# Altium schematic symbol library CD74HC4051M96.SchLib: 2 symbols
Pins are listed as number, name and electrical type; pins without a type are passive.

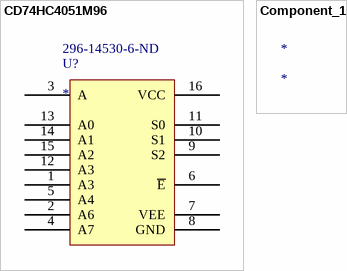
[diagram p0: symbols CD74HC4051M96 to Component_1]

## CD74HC4051M96
designator U?  Supplier Part Number 1: 296-14530-6-ND
IC MUX/DEMUX 8X1 16SOIC; Manufacturer: Texas Instruments (TI); Manufacturer Part Number: CD74HC4051M96; Min Dual Supply Voltage: 1V; Max Supply Voltage: 6V; Min Supply Voltage: 2V; Number of Inputs: 8; Number of Outputs: 1; Dual Supply Voltage: 3V; Max Dual Supply Voltage: 5V; Bandwidth: 180MHz; Propagation Delay: 60ns; Logic Function: Multiplexer,Demultiplexer; On-State Resistance: 130R; Turn-On Delay Time: 225ns; Supply Type: Single,Dual; Low Level Output Current: 25mA; Nominal Supply Current: 16uA; Polarity: Non-Inverting; Supplier 1: Digikey; Stock 1: 26333; Pricing 1: 1=0.54, 10=0.464, 100=0.3461, 500=0.2719, 1000=0.2101 (USD); Mount: Surface Mount; Case/Package: SOIC; Number of Pins: 16; Weight: 0.004998oz; Contact Plating: Tin; Min Operating Temperature: -55°C; Max Operating Temperature: 125°C; Packaging: Tape and Reel; Number of Channels: 1; Package Quantity: 2500; Turn-Off Delay Time: 225ns; High Level Output Current: 25mA; Number of Bits: 8; Number of Circuits: 1; Supply Voltage: 5V; Length: 9.9mm; Height: 1.58mm; Width: 3.91mm; Radiation Hardening: No; Lead Free: Lead Free; REACH SVHC: No SVHC; ComponentLink1URL: https://datasheet.ciiva.com/15127/getdatasheetpartid-249752-15127559.pdf; ComponentLink1Description: https://datasheet.ciiva.com/15127/getdatasheetpartid-249752-15127559.pdf; ComponentLink2URL: https://datasheet.ciiva.com/30509/cd74hc4051m96-30509780.pdf; ComponentLink2Description: https://datasheet.ciiva.com/30509/cd74hc4051m96-30509780.pdf; ComponentLink3URL: https://datasheet.ciiva.com/34301/897866-34301696.pdf; ComponentLink3Description: https://datasheet.ciiva.com/34301/897866-34301696.pdf; ComponentLink4URL: https://datasheet.ciiva.com/2978/cd74hct4053-2978700.pdf; ComponentLink4Description: https://datasheet.ciiva.com/2978/cd74hct4053-2978700.pdf; ComponentLink5URL: https://datasheet.ciiva.com/1669/cd74hc4051-1669464.pdf; ComponentLink5Description: https://datasheet.ciiva.com/1669/cd74hc4051-1669464.pdf; ComponentLink6URL: https://datasheet.ciiva.com/1514/1840262-1514378.pdf; ComponentLink6Description: https://datasheet.ciiva.com/1514/1840262-1514378.pdf; ComponentLink7URL: https://datasheet.ciiva.com/1669/cd74hc4051-1669462.pdf; ComponentLink7Description: https://datasheet.ciiva.com/1669/cd74hc4051-1669462.pdf; ComponentLink8URL: https://datasheet.ciiva.com/1669/cd74hc4051-1669463.pdf; ComponentLink8Description: https://datasheet.ciiva.com/1669/cd74hc4051-1669463.pdf; ComponentLink9URL: https://datasheet.ciiva.com/48707/001047744-da-01-en-ic-mux-demux-8-cd74hc4051m96-soic-16-tid-48707574.pdf; ComponentLink9Description: https://datasheet.ciiva.com/48707/001047744-da-01-en-ic-mux-demux-8-cd74hc4051m96-soic-16-tid-48707574.pdf
footprint SOIC127P800X175-16N (SOIC, 16-Leads, Body 10.00x3.90mm, Pitch 1.27mm, IPC Medium Density)
pins: 1 A3, 2 A6, 3 A, 4 A7, 5 A4, 6 ~{E}, 7 VEE, 8 GND, 9 S2, 10 S1, 11 S0, 12 A3, 13 A0, 14 A1, 15 A2, 16 VCC

## Component_1
designator *